# EAGLE library part AYZ0202AGRLC (library SW_Input)
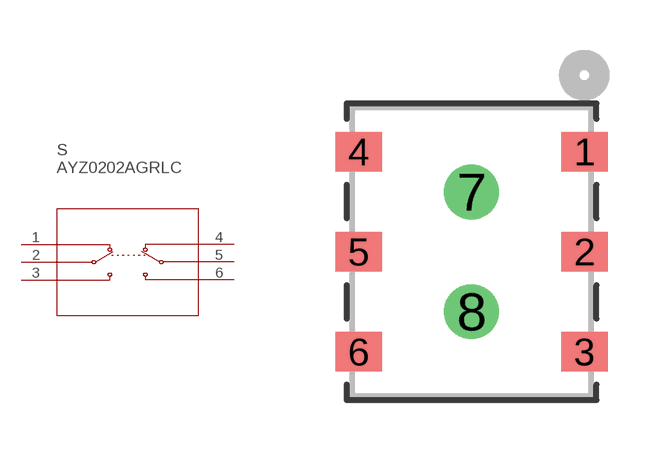
[diagram p0: symbol with the pads of AYZ0202AGRLC_CNK; footprint AYZ0202AGRLC_CNK]

Designator prefix S

## AYZ0202AGRLC (CATEGORY: Buttons & Switches; MFGS: C&K; MPNS: AYZ0202AGRLC; PACKAGE: DPDT)  [AYZ0202AGRLC_CNK]
1  1  pas
2  2  pas
3  3  pas
4  4  pas
5  5  pas
6  6  pas

## Footprint AYZ0202AGRLC_CNK (pad centres in mm)
smd 1.168 x 0.991: 1 2.826,2.502; 2 2.826,0; 3 2.826,-2.502; 4 -2.826,2.502; 5 -2.826,0; 6 -2.826,-2.502
drill 0.864 pad 0.864: 7 0,1.499; 8 0,-1.499